# Altium footprint library ESP-12F.PcbLib: 1 footprints
Each footprint in its own frame and in the unit in brackets; x right, y up, seen from the top. Pads: shape width x height; smd on the part's side, far side on the other; paste and mask are expansions set on the pad; w line width, h text height; cw(c..) or ccw(c..) is an arc to the next point about the centre after c.
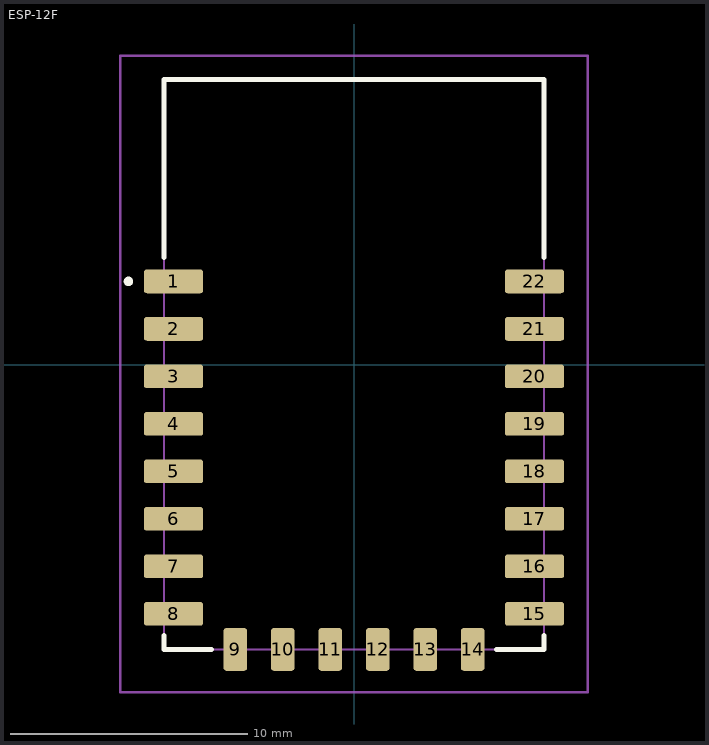
[diagram p0: the footprint, top view; thin cyan lines are the x and y axes]

## ESP-12F [mm]
pads (22):
  rrect25% 2.5x1 smd: 1(-7.6,3.5) 2(-7.6,1.5) 3(-7.6,-0.5) 4(-7.6,-2.5) 5(-7.6,-4.5) 6(-7.6,-6.5) 7(-7.6,-8.5) 8(-7.6,-10.5) 15(7.6,-10.5) 16(7.6,-8.5) 17(7.6,-6.5) 18(7.6,-4.5) 19(7.6,-2.5) 20(7.6,-0.5) 21(7.6,1.5) 22(7.6,3.5)
  rrect25% 1x1.8 smd: 9(-5,-12) 10(-3,-12) 11(-1,-12) 12(1,-12) 13(3,-12) 14(5,-12)
Top Overlay:
  circle w0.2: c-9.5,3.5 r0.1
  lines w0.2: -8,-11.4 -8,-12 -6,-12 ; -8,4.5 -8,12 8,12 8,4.5 ; 6,-12 8,-12 8,-11.4
Mechanical 13:
  lines w0.1: -8,-12 8,-12 8,12 -8,12 -8,-12
Mechanical 15:
  lines w0.1: -9.85,-13.8 -9.85,13 9.85,13 9.85,-13.8 -9.85,-13.8
3D body "ESP_12_E.STEP": height 2.72, standoff 0.01, extent -8.025,-12 7.975,12